# Altium schematic symbol library Demo.SCHLIB: 16 symbols
Pins are listed as number, name and electrical type; pins without a type are passive.

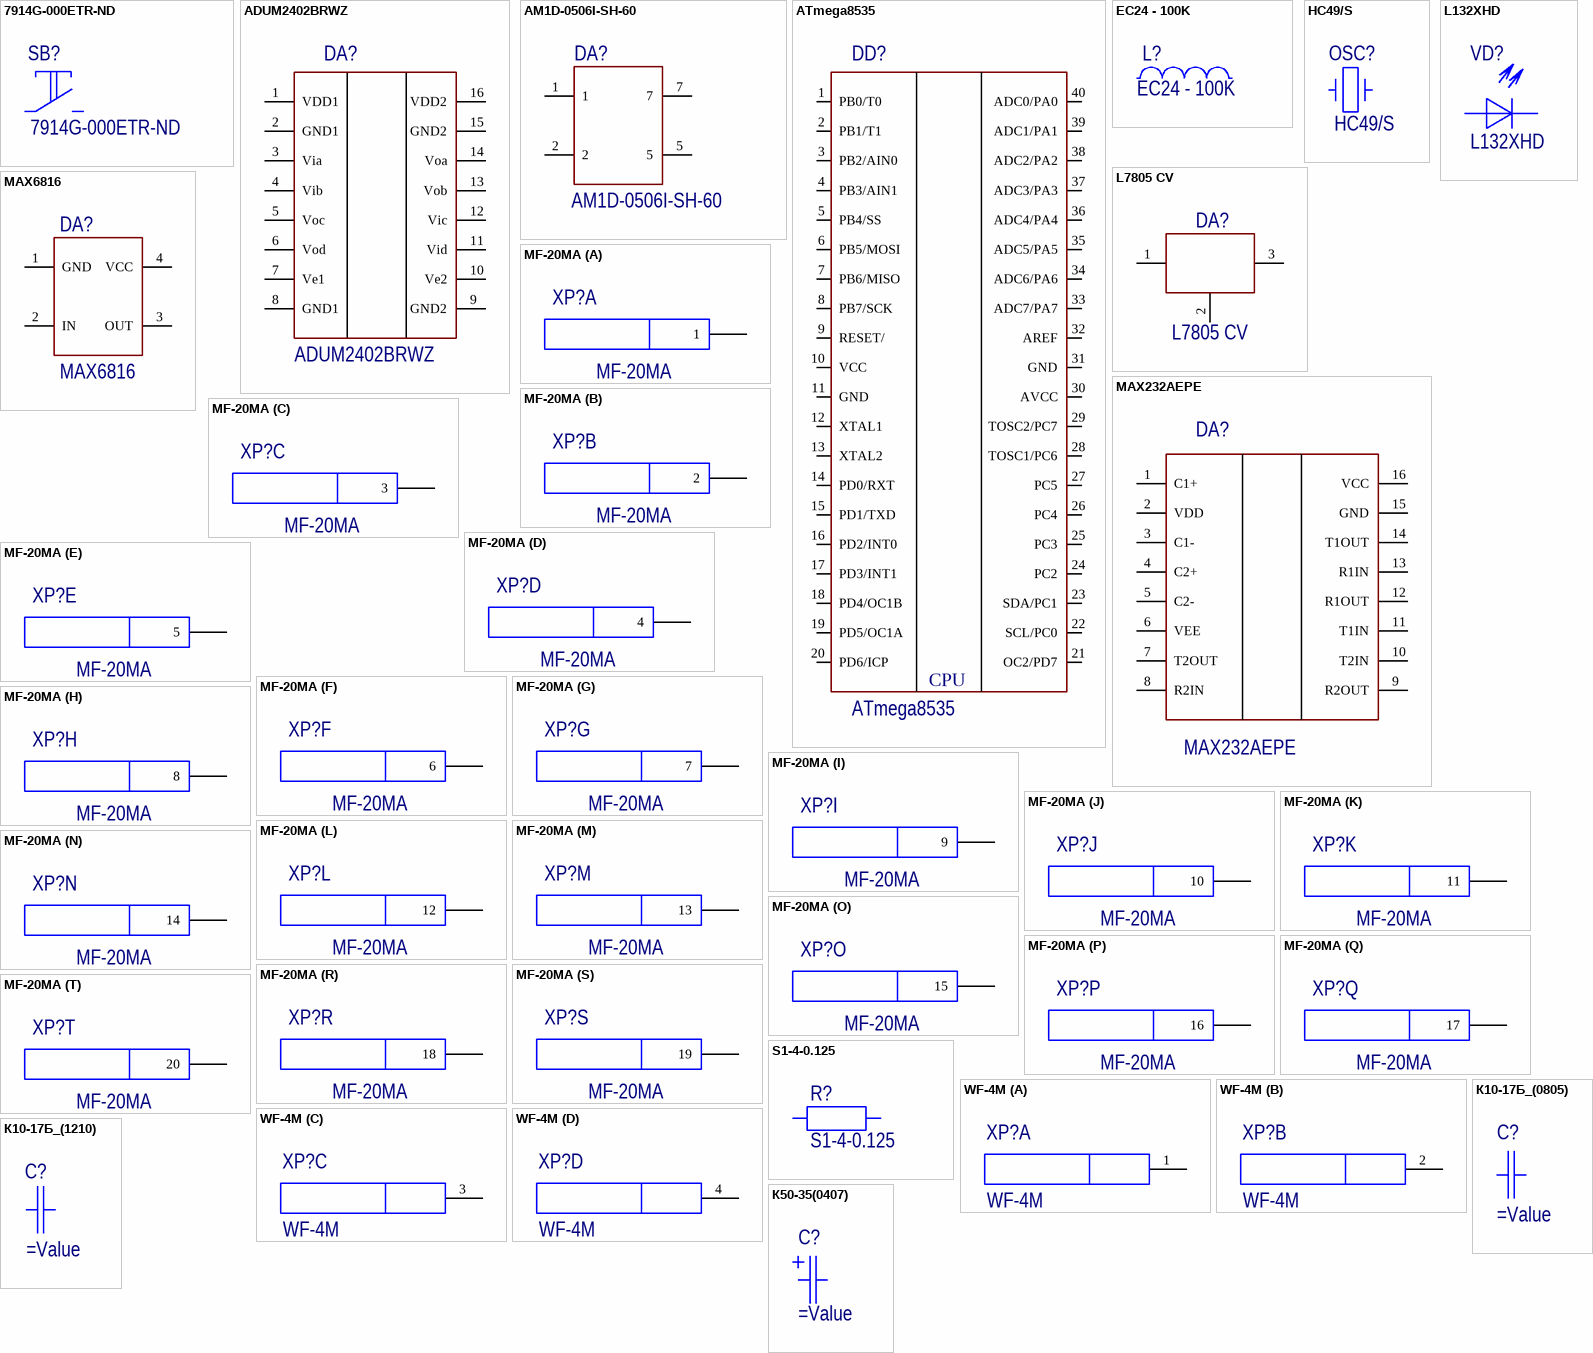
[diagram p0: symbols 7914G-000ETR-ND to К50-35(0407)]

## 7914G-000ETR-ND
designator SB?
Кнопка; ComponentLink1Description: Параметры; ComponentLink1URL: C:\Demo\Datasheet\7914.pdf; ComponentLink2Description: Сайт производителя; ComponentLink2URL: *; Author: Rodnik SPE
pins: 1, 2, 3 hidden, 4 hidden

## ADUM2402BRWZ
designator DA?
Quad-Channel Digital Isolators; ComponentLink1Description: Параметры; ComponentLink1URL: C:\Demo\Datasheet\ADuM2402.pdf; ComponentLink2Description: Сайт производителя; ComponentLink2URL: *; Author: Rodnik SPE
pins: 1 VDD1, 2 GND1, 3 Via, 4 Vib, 5 Voc, 6 Vod, 7 Ve1, 8 GND1, 9 GND2, 10 Ve2, 11 Vid, 12 Vic, 13 Vob, 14 Voa, 15 GND2, 16 VDD2

## AM1D-0506I-SH-60
designator DA?
1 watt dc-dc converters; ComponentLink1Description: Параметры; ComponentLink1URL: C:\Demo\Datasheet\AM1D-0505S.pdf; ComponentLink2Description: Сайт производителя; ComponentLink2URL: *; Author: Rodnik SPE
pins: 1, 2, 5, 7

## ATmega8535
designator DD?
8-bit Microcontroller with 8K Bytes In-System Programmable Flash; ManufacturerPartNumber: ATMEGA8535-16PC-ND; Корпус: PDIP-40; ComponentLink1Description: Параметры; ComponentLink1URL: C:\Demo\Datasheet\ATmega8535.pdf; ComponentLink2Description: Сайт производителя; ComponentLink2URL: *; Manufacturer: *; Power\Voltage: *; Rem: *; TKE: *; Tolerance: *; TU/GOST: *; Value: *; Примечание: *; Supplier 1: Digi-Key; Supplier Part Number 1: ATMEGA8535-16PC-ND; Author: Rodnik SPE
pins: 1 PB0/T0, 2 PB1/T1, 3 PB2/AIN0, 4 PB3/AIN1, 5 PB4/SS, 6 PB5/MOSI, 7 PB6/MISO, 8 PB7/SCK, 9 RESET/, 10 VCC, 11 GND, 12 XTAL1, 13 XTAL2, 14 PD0/RXT, 15 PD1/TXD, 16 PD2/INT0, 17 PD3/INT1, 18 PD4/OC1B, 19 PD5/OC1A, 20 PD6/ICP, 21 OC2/PD7, 22 SCL/PC0, 23 SDA/PC1, 24 PC2, 25 PC3, 26 PC4, 27 PC5, 28 TOSC1/PC6, 29 TOSC2/PC7, 30 AVCC, 31 GND, 32 AREF, 33 ADC7/PA7, 34 ADC6/PA6, 35 ADC5/PA5, 36 ADC4/PA4, 37 ADC3/PA3, 38 ADC2/PA2, 39 ADC1/PA1, 40 ADC0/PA0
text: CPU

## EC24 - 100K
designator L?
Индуктивность постоянная; ComponentLink1Description: Параметры; ComponentLink1URL: C:\Demo\Datasheet\EC24-XXXK.pdf; ComponentLink2Description: Сайт производителя; ComponentLink2URL: *; Author: Rodnik SPE
pins: 1, 2

## HC49/S
designator OSC?
Кварцевый резонатор; ComponentLink1Description: Параметры; ComponentLink1URL: C:\Demo\Datasheet; ComponentLink2Description: Сайт производителя; ComponentLink2URL: *; Author: Rodnik SPE
pins: 1, 2

## L132XHD
designator VD?
Диод круглый; ComponentLink1Description: Параметры; ComponentLink1URL: C:\Demo\Datasheet\L132-H-D.pdf; ComponentLink2Description: Сайт производителя; ComponentLink2URL: *; Author: Rodnik SPE
pins: 1 K, 2 A

## L7805 CV
designator DA?
Positive voltage regulators; ComponentLink1Description: Параметры; ComponentLink1URL: C:\Demo\Datasheet; ComponentLink2Description: Сайт производителя; ComponentLink2URL: *; Author: Rodnik SPE
pins: 1, 2, 3
2 alternate drawings of the same symbol

## MAX232AEPE
designator DA?
+5V-Powered, Multichannel RS-232 Drivers/Receivers; ComponentLink1Description: Параметры; ComponentLink1URL: C:\Demo\Datasheet\MAX220-MAX249.pdf; ComponentLink2Description: Сайт производителя; ComponentLink2URL: *; Author: Rodnik SPE
pins: 1 C1+, 2 VDD, 3 C1-, 4 C2+, 5 C2-, 6 VEE, 7 T2OUT, 8 R2IN, 9 R2OUT, 10 T2IN, 11 T1IN, 12 R1OUT, 13 R1IN, 14 T1OUT, 15 GND, 16 VCC

## MAX6816
designator DA?
±15kV ESD-Protected, Single/Dual/Octal,  CMOS Switch Debouncers; ComponentLink1Description: Параметры; ComponentLink1URL: C:\Demo\Datasheet\MAX6816-MAX6818.pdf; ComponentLink2Description: Сайт производителя; ComponentLink2URL: *; Author: Rodnik SPE
pins: 1 GND, 2 IN, 3 OUT, 4 VCC

## MF-20MA
designator XP?
Разъем; ComponentLink1Description: Параметры; ComponentLink1URL: C:\Demo\Datasheet; ComponentLink2Description: Сайт производителя; ComponentLink2URL: *; Author: Rodnik SPE
part A pins: 1
part B pins: 2
part C pins: 3
part D pins: 4
part E pins: 5
part F pins: 6
part G pins: 7
part H pins: 8
part I pins: 9
part J pins: 10
part K pins: 11
part L pins: 12
part M pins: 13
part N pins: 14
part O pins: 15
part P pins: 16
part Q pins: 17
part R pins: 18
part S pins: 19
part T pins: 20

## S1-4-0.125
designator R?
Импортный постоянный углеродистый резистор; ComponentLink1Description: Параметры; ComponentLink1URL: C:\Demo\Datasheet\С1-4.pdf; ComponentLink2Description: Сайт производителя; ComponentLink2URL: *; Author: Rodnik SPE
pins: 1, 2
2 alternate drawings of the same symbol

## WF-4M
designator XP?
Разъем; ComponentLink1Description: Параметры; ComponentLink1URL: C:\Demo\Datasheet; ComponentLink2Description: Сайт производителя; ComponentLink2URL: *; Author: Rodnik SPE
part A pins: 1
part B pins: 2
part C pins: 3
part D pins: 4

## К10-17Б_(0805)
designator C?
Capacitor; ComponentLink1Description: Параметры; ComponentLink1URL: C:\Demo\Datasheet\К10-17Б.pdf; ComponentLink2Description: Сайт производителя; ComponentLink2URL: *; Author: Rodnik SPE
pins: 1, 2

## К10-17Б_(1210)
designator C?
Capacitor; ComponentLink1Description: Параметры; ComponentLink1URL: C:\Demo\Datasheet\К10-17Б.pdf; ComponentLink2Description: Сайт производителя; ComponentLink2URL: *; Author: Rodnik SPE
pins: 1, 2

## К50-35(0407)
designator C?
Capacitor; Author: Rodnik SPE; ComponentLink1Description: Параметры; ComponentLink1URL: C:\Demo\Datasheet\К50-35 мини.pdf; ComponentLink2Description: Сайт производителя; ComponentLink2URL: *
pins: 1, 2